# EAGLE library part EEPROM-C24CXX (library SteveMarple)
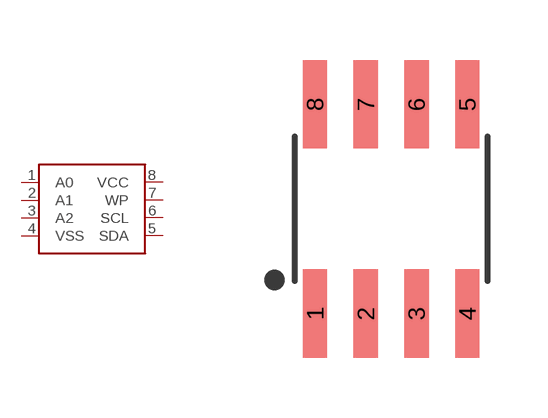
[diagram p42: symbol with the pads of SO08; footprint SO08]

Designator prefix -

## EEPROM-C24CXXSOIC8  [SO08]
1  A0  in
2  A1  in
3  A2  in
4  VSS  pwr
5  SDA
6  SCL
7  WP  in
8  VCC  pwr

## Footprint SO08 (pad centres in mm)
smd 0.61 x 2.21: 1 -1.905,-2.616; 2 -0.635,-2.616; 3 0.635,-2.616; 4 1.905,-2.616; 5 1.905,2.616; 6 0.635,2.616; 7 -0.635,2.616; 8 -1.905,2.616